# EAGLE library part VND600SE (library MotorDriver)
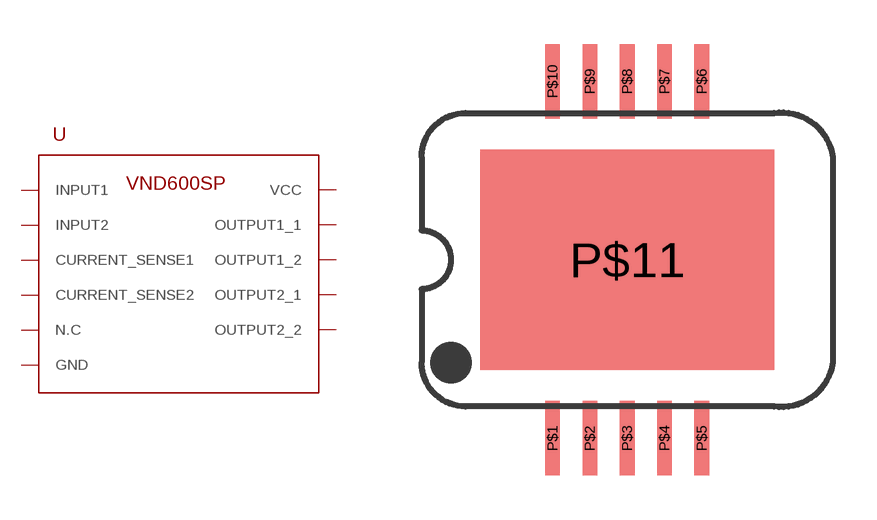
[diagram p0: symbol with the pads of SO-10; footprint SO-10]

Designator prefix U

## VND600SE-E  [SO-10]
P$1  OUTPUT1_1
P$2  OUTPUT1_2
P$3  N.C
P$4  OUTPUT2_1
P$5  OUTPUT2_2
P$6  GND
P$7  INPUT2
P$8  INPUT1
P$9  CURRENT_SENSE1
P$10  CURRENT_SENSE2
P$11  VCC

## Footprint SO-10 (pad centres in mm)
smd 0.5 x 2.54: P$1 -2.54,-6.08; P$2 -1.27,-6.08; P$3 0,-6.08; P$4 1.27,-6.08; P$5 2.54,-6.08; P$6 2.54,6.08; P$7 1.27,6.08; P$8 0,6.08; P$9 -1.27,6.08; P$10 -2.54,6.08
smd 10 x 7.5: P$11 0,0